# EAGLE library part 74HC123 (library Logic)
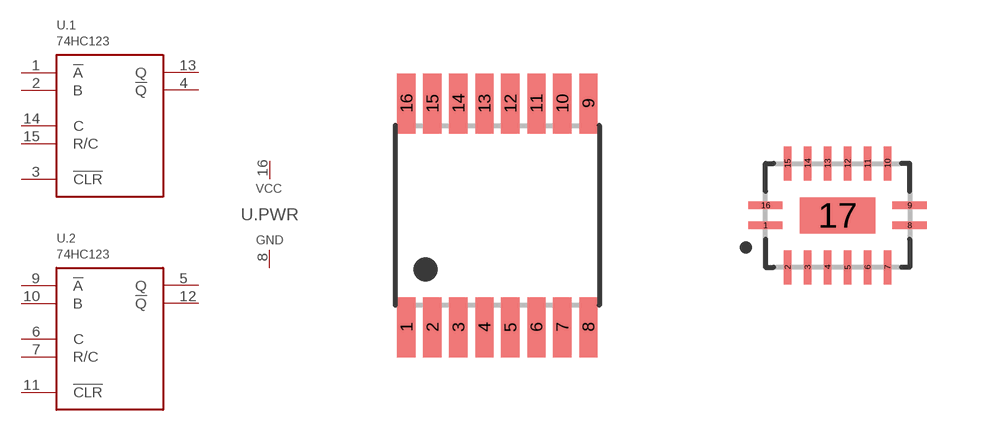
[diagram p1: symbol with the pads of TSSOP16; footprints TSSOP16, DHVQFN16]

Designator prefix U; gates .PWR=PWR .2=74HC123 .1=74HC123

## 74HC123PW  [TSSOP16]
1  .1:!A
2  .1:B
3  .1:!CLR
4  .1:!Q
5  .2:Q
6  .2:C
7  .2:R/C
8  .PWR:GND  pwr
9  .2:!A
10  .2:B
11  .2:!CLR
12  .2:!Q
13  .1:Q
14  .1:C
15  .1:R/C
16  .PWR:VCC  pwr

## 74HC123BQ  [DHVQFN16]
1  .1:!A
2  .1:B
3  .1:!CLR
4  .1:!Q
5  .2:Q
6  .2:C
7  .2:R/C
8  .PWR:GND  pwr
9  .2:!A
10  .2:B
11  .2:!CLR
12  .2:!Q
13  .1:Q
14  .1:C
15  .1:R/C
16  .PWR:VCC  pwr
17  .PWR:GND  pwr

## Footprint TSSOP16 (pad centres in mm)
smd 0.45 x 1.5: 1 -2.275,-2.8; 2 -1.625,-2.8; 3 -0.975,-2.8; 4 -0.325,-2.8; 5 0.325,-2.8; 6 0.975,-2.8; 7 1.625,-2.8; 8 2.275,-2.8; 9 2.275,2.8; 10 1.625,2.8; 11 0.975,2.8; 12 0.325,2.796; 13 -0.325,2.796; 14 -0.975,2.8; 15 -1.625,2.8; 16 -2.275,2.8

## Footprint DHVQFN16 (pad centres in mm)
smd 0.85 x 0.19: 1 -1.8,-0.25; 8 1.8,-0.25; 9 1.8,0.25; 16 -1.8,0.25
smd 0.19 x 0.85: 2 -1.25,-1.3; 3 -0.75,-1.3; 4 -0.25,-1.3; 5 0.25,-1.3; 6 0.75,-1.3; 7 1.25,-1.3; 10 1.25,1.3; 11 0.75,1.3; 12 0.25,1.3; 13 -0.25,1.3; 14 -0.75,1.3; 15 -1.25,1.3
smd 1.9 x 0.9: 17 0,0